# EAGLE library part TMM-109-XX-X-D (library con-samtec-tmm)
HEADER
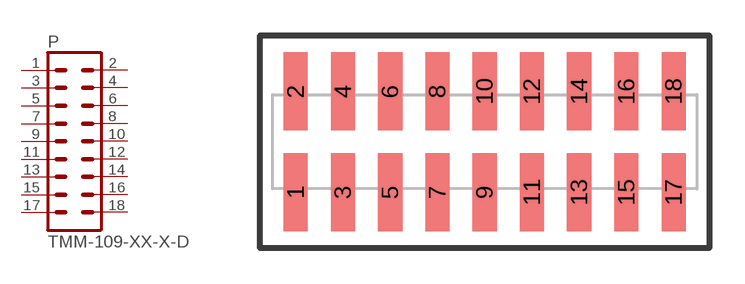
[diagram p6: symbol with the pads of TMM-109-XX-X-D; footprint TMM-109-XX-X-D]

Designator prefix P

## TMM-109-XX-X-D  [TMM-109-XX-X-D]
1  1  pas
2  2  pas
3  3  pas
4  4  pas
5  5  pas
6  6  pas
7  7  pas
8  8  pas
9  9  pas
10  10  pas
11  11  pas
12  12  pas
13  13  pas
14  14  pas
15  15  pas
16  16  pas
17  17  pas
18  18  pas

## Footprint TMM-109-XX-X-D (pad centres in mm)
HEADER
smd 1.02 x 3.3: 1 -8,-2.134; 2 -8,2.134; 3 -6,-2.134; 4 -6,2.134; 5 -4,-2.134; 6 -4,2.134; 7 -2,-2.134; 8 -2,2.134; 9 0,-2.134; 10 0,2.134; 11 2,-2.134; 12 2,2.134; 13 4,-2.134; 14 4,2.134; 15 6,-2.134; 16 6,2.134; 17 8,-2.134; 18 8,2.134